# Altium schematic symbol library TI DS26LS32.SchLib: 1 symbol
Pins are listed as number, name and electrical type; pins without a type are passive.

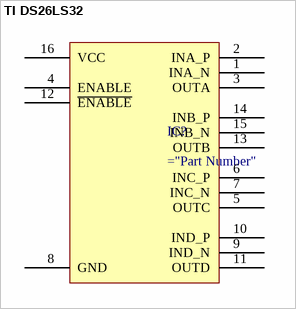
[diagram p0: symbol TI DS26LS32]

## TI DS26LS32
designator IC?
pins: 1 INA_N, 2 INA_P, 3 OUTA, 4 ENABLE, 5 OUTC, 6 INC_P, 7 INC_N, 8 GND, 9 IND_N, 10 IND_P, 11 OUTD, 12 ~{ENABLE}, 13 OUTB, 14 INB_P, 15 INB_N, 16 VCC